# Altium schematic symbol library Power.SchLib: 6 symbols
Pins are listed as number, name and electrical type; pins without a type are passive.

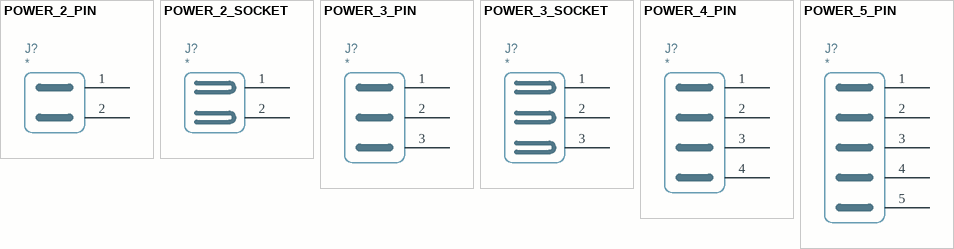
[diagram p0: symbols POWER_2_PIN to POWER_5_PIN]

## POWER_2_PIN
designator J?
pins: 1 IO1, 2 IO2

## POWER_2_SOCKET
designator J?
pins: 1 IO1, 2 IO2

## POWER_3_PIN
designator J?
pins: 1 IO1, 2 IO2, 3 IO3

## POWER_3_SOCKET
designator J?
pins: 1 IO1, 2 IO2, 3 IO3

## POWER_4_PIN
designator J?
pins: 1 IO1, 2 IO2, 3 IO3, 4 IO4

## POWER_5_PIN
designator J?
pins: 1 IO1, 2 IO2, 3 IO3, 4 IO4, 5 IO5